# Altium footprint library MainboardPcbLib.PcbLib: 8 footprints
Each footprint in its own frame and in the unit in brackets; x right, y up, seen from the top. Pads: shape width x height; smd on the part's side, far side on the other; paste and mask are expansions set on the pad; w line width, h text height; cw(c..) or ccw(c..) is an arc to the next point about the centre after c.
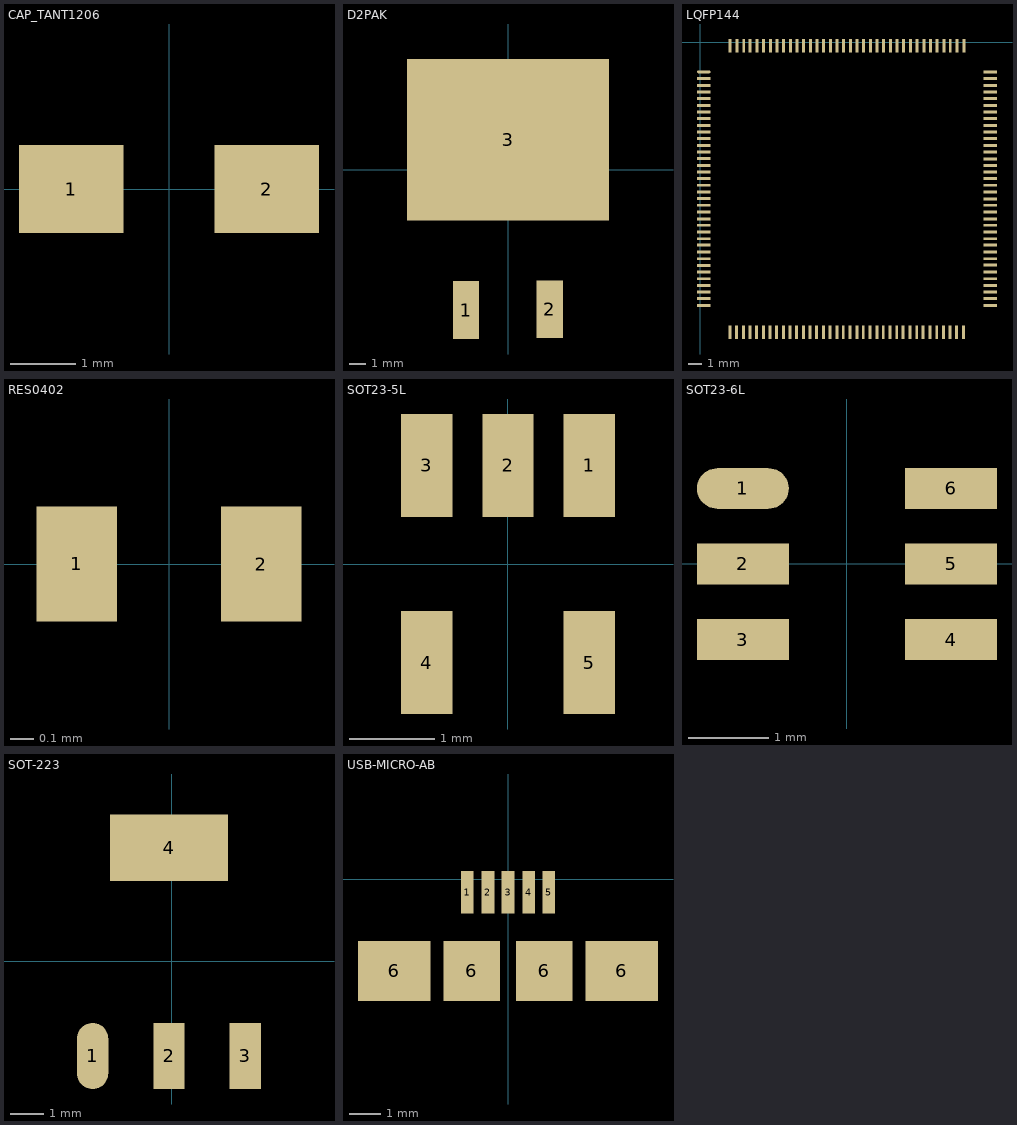
[diagram p0: the footprints below, top view; thin cyan lines are the x and y axes]

## CAP_TANT1206 [mm] "TANTALUM CAPACITOR-SMD 1206 (IN)"
pads (2):
  rect 1.6x1.35 smd mask+0.02: 1(-1.5,0) 2(1.5,0)
3D body "CAP_TAN_3216_1206.step": height 1.78, standoff -0.02, extent -1.7,-0.9 1.7,0.9

## D2PAK [mm] "L7805ACD2T-TR"
pads (3):
  rect 1.6x3.5 smd: 1(-2.54,-8.5) 2(2.515,-8.449)
  rect 12.2x9.75 smd: 3(0,1.8)
3D body "D2-PAK.step": height 4.98, standoff -0.03, extent -5.08,-9.416 5.08,5.848

## LQFP144 [mil] "STM32F4"
pads (144):
  rect 40x8.66 smd: 2(10,-778) 2(10,-758) 2(10,-738) 2(10,-719) 2(10,-699) 2(10,-679) 2(10,-660) 2(10,-640) 2(10,-620) 2(10,-600) 2(10,-581) 2(10,-561) 2(10,-541) 2(10,-522) 2(10,-502) 2(10,-482) 2(10,-462) 2(10,-443) 2(10,-423) 2(10,-403) 2(10,-384) 2(10,-364) 2(10,-344) 2(10,-325) 2(10,-305) 2(10,-285) 2(10,-266) 2(10,-246) 2(10,-226) 2(10,-207) 2(10,-187) 2(10,-167) 2(10,-147) 2(10,-128) 2(10,-108) 2(856,-778) 2(856,-758) 2(856,-738) 2(856,-719) 2(856,-699) 2(856,-679) 2(856,-659) 2(856,-640) 2(856,-620) 2(856,-600) 2(856,-581) 2(856,-561) 2(856,-541) 2(856,-522) 2(856,-502) 2(856,-482) 2(856,-463) 2(856,-443) 2(856,-423) 2(856,-403) 2(856,-384) 2(856,-364) 2(856,-345) 2(856,-325) 2(856,-305) 2(856,-285) 2(856,-266) 2(856,-246) 2(856,-226) 2(856,-206) 2(856,-187) 2(856,-167) 2(856,-147) 2(856,-128) 2(856,-108) 2(856,-88)
  oval 40x8.66 smd: 2(10,-88)
  rect 8.66x40 smd: 2(87,-857) 2(88,-11) 2(107,-857) 2(108,-11) 2(127,-857) 2(128,-11) 2(146,-857) 2(147,-11) 2(166,-857) 2(167,-11) 2(186,-857) 2(187,-11) 2(205,-857) 2(207,-11) 2(225,-857) 2(226,-11) 2(245,-857) 2(246,-11) 2(265,-857) 2(266,-11) 2(284,-857) 2(285,-11) 2(304,-857) 2(305,-11) 2(324,-857) 2(325,-11) 2(343,-857) 2(344,-11) 2(363,-857) 2(364,-11) 2(383,-857) 2(384,-11) 2(403,-857) 2(403,-11) 2(422,-857) 2(423,-11) 2(442,-857) 2(443,-11) 2(462,-857) 2(462,-11) 2(481,-857) 2(482,-11) 2(501,-857) 2(502,-11) 2(521,-857) 2(522,-11) 2(540,-857) 2(541,-11) 2(560,-857) 2(561,-11) 2(580,-857) 2(581,-11) 2(599,-857) 2(600,-11) 2(619,-857) 2(620,-11) 2(639,-857) 2(640,-11) 2(658,-857) 2(660,-11) 2(678,-857) 2(679,-11) 2(698,-857) 2(699,-11) 2(718,-857) 2(719,-11) 2(737,-857) 2(738,-11) 2(757,-857) 2(758,-11) 2(777,-857) 2(778,-11)
3D body "LQFP144_STM32F4.STEP": height 74.24, standoff -0.56, extent 0,-866.14 866.15,0

## RES0402 [mm] "RESISTOR-SMD 0402 (IN)"
pads (2):
  rect 0.35x0.5 smd mask+0.01: 1(-0.4,0) 2(0.4,0)
3D body "RES0402-1.step": height 0.27, standoff -0.03, extent -0.5,-0.25 0.5,0.25

## SOT23-5L [mm] "STMPS2151STR"
pads (5):
  rect 0.6x1.2 smd: 1(0.95,1.15) 2(0,1.15) 3(-0.95,1.15) 4(-0.95,-1.15) 5(0.95,-1.15)
3D body "SOT23-5-1.SLDPRT": height 1.26, standoff -0.04, extent -1.5,-1.5 1.5,1.5

## SOT23-6L [mil] "ESDA6V1-4BC6"
pads (6):
  oval 45x20 smd: 1(-51,37)
  rect 45x20 smd: 2(-51,0) 3(-51,-37) 4(51,-37) 5(51,0) 6(51,37)
3D body "SOT23-6-2.STEP": height 56.09, standoff -1, extent -55.11,-57.09 55.12,57.08

## SOT-223 [mil] "LM317"
pads (4):
  oval 37.4x78.74 smd: 1(-94,-113)
  rect 37.4x78.74 smd: 2(-3,-113) 3(88,-113)
  rect 140x78.74 smd: 4(-3,135)
3D body "SOT-223.STEP": height 64.04, standoff -0.92, extent -130.95,-120.8 124.96,154.8
3D body: height 10, standoff 0, extent 467,169 467,169

## USB-MICRO-AB [mm] "USB-Connector"
pads (9):
  rect 0.4x1.35 smd: 1(-1.295,-0.406) 2(-0.635,-0.406) 3(0,-0.406) 4(0.66,-0.406) 5(1.295,-0.406)
  rect 2.3x1.9 smd: 6(-3.6,-2.9) 6(3.6,-2.9)
  rect 1.8x1.9 smd: 6(-1.15,-2.9) 6(1.15,-2.9)
3D body: height 0.25, standoff 0, extent 0.965,0.991 0.965,0.991
3D body "USBMicroAB.STEP": height 2.74, standoff -0.26, extent -4.4,-5.6 4.4,0